# Altium schematic symbol library Current Shunt 45mR on 36uM.SchLib: 1 symbol
Pins are listed as number, name and electrical type; pins without a type are passive.

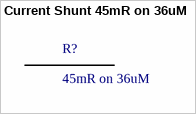
[diagram p0: symbol Current Shunt 45mR on 36uM]

## Current Shunt 45mR on 36uM
designator R?, comment 45mR on 36uM  (net tie, no BOM)
footprint PCB Shunt 0.3mm x 20mm - 45mOhm on 36uM
pins: 1, 2